# EAGLE library part HMC424 (library trash-robot-eagle-library)
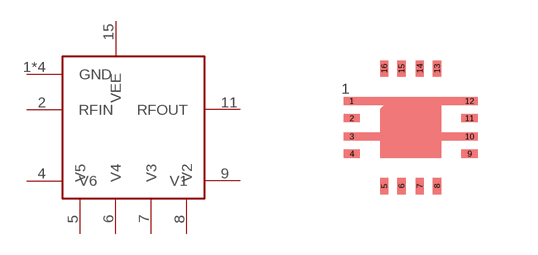
[diagram p19: symbol with the pads of HMC424; footprint HMC424]

Designator prefix -

## HMC424  [HMC424]
1  GND
2  RFIN
3  GND
4  V6
5  V5
6  V4
7  V3
8  V2
9  V1
10  GND
11  RFOUT
12  GND
15  VEE

## Footprint HMC424 (pad centres in mm)
smd 0.406 x 0.203: 1 -0.711,1.422; 2 -0.711,0.991; 3 -0.711,0.533; 4 -0.711,0.102; 9 2.235,0.102; 10 2.235,0.533; 11 2.235,0.991; 12 2.235,1.422
smd 0.203 x 0.406: 5 0.102,-0.711; 6 0.533,-0.711; 7 0.991,-0.711; 8 1.422,-0.711; 13 1.422,2.235; 14 0.991,2.235; 15 0.533,2.235; 16 0.102,2.235